# Altium footprint library PcbLib1.PcbLib: 46 footprints (part 1 of 3)
Each footprint in its own frame and in the unit in brackets; x right, y up, seen from the top. Pads: shape width x height; smd on the part's side, far side on the other; paste and mask are expansions set on the pad; w line width, h text height; cw(c..) or ccw(c..) is an arc to the next point about the centre after c.
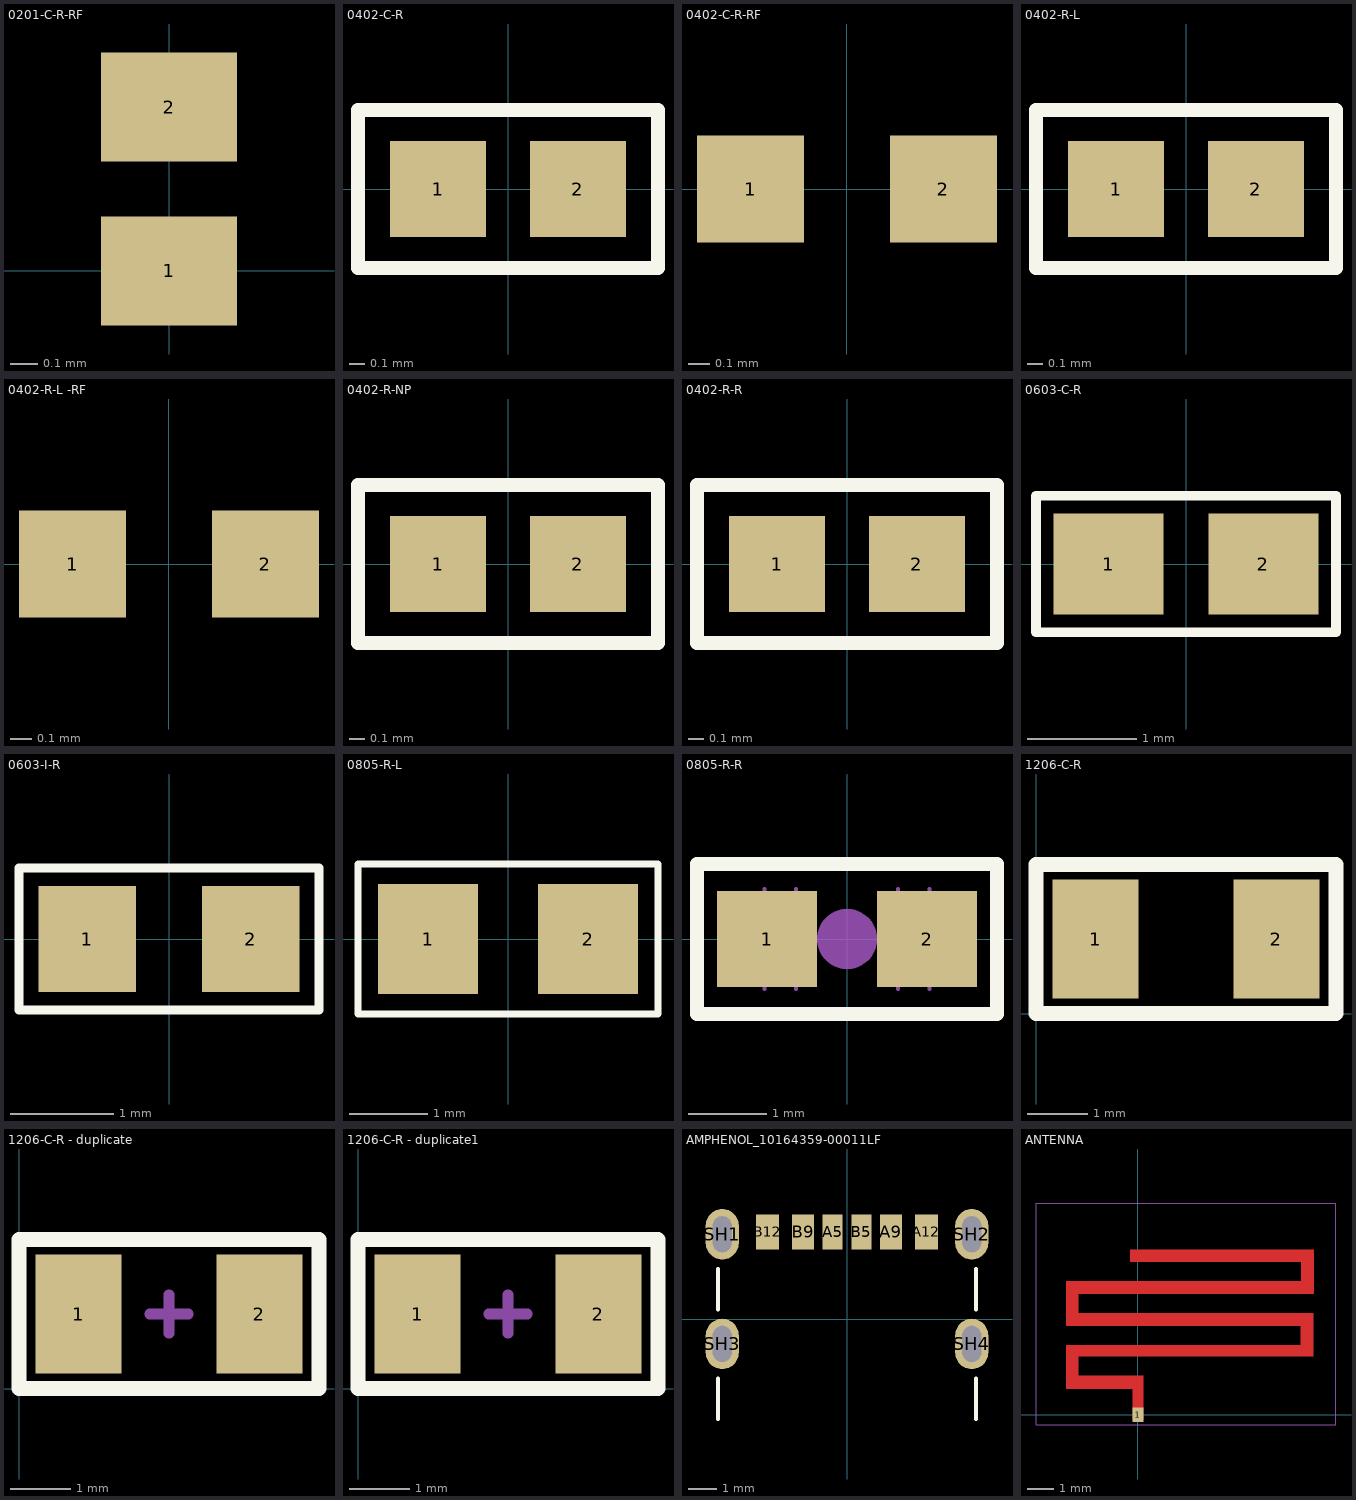
[diagram p0: the footprints below, top view; thin cyan lines are the x and y axes]

## 0201-C-R-RF [mm]
pads (2):
  rect 0.5x0.4 smd: 1(0,0) 2(0,0.6)
3D body "Capacitors_0201_H0P3.STEP": height 0.3, standoff 0, extent -0.15,0 0.15,0.6

## 0402-C-R [mm]
height 1.52
pads (2):
  rect 0.62x0.62 smd: 1(-0.45,0) 2(0.45,0)
Top Overlay:
  lines w0.089: -0.965,-0.508 0.965,-0.508 0.965,0.508 -0.965,0.508 -0.965,-0.508
3D body "C0402C104K3RACTU.step": height 0.55, standoff 0, extent -0.518,-0.271 0.532,0.279

## 0402-C-R-RF [mm]
height 1.52
pads (2):
  rect 0.5x0.5 smd: 1(-0.45,0) 2(0.45,0)
3D body "C0402C104K3RACTU.step": height 0.55, standoff 0, extent -0.518,-0.271 0.532,0.279

## 0402-R-L [mm]
height 1.52
pads (2):
  rect 0.62x0.62 smd: 1(-0.45,0) 2(0.45,0)
Top Overlay:
  lines w0.089: -0.965,-0.508 0.965,-0.508 0.965,0.508 -0.965,0.508 -0.965,-0.508
3D body "LQG15HN22NJ02D.step": height 0.55, standoff 0, extent -0.5,-0.25 0.5,0.25

## 0402-R-L -RF [mm]
height 1.52
pads (2):
  rect 0.5x0.5 smd: 1(-0.45,0) 2(0.45,0)
3D body "LQG15HN22NJ02D.step": height 0.55, standoff 0, extent -0.5,-0.25 0.5,0.25

## 0402-R-NP [mm]
height 1.52
pads (2):
  rect 0.62x0.62 smd: 1(-0.45,0) 2(0.45,0)
Top Overlay:
  lines w0.089: -0.965,-0.508 -0.965,0.508 0.965,0.508 0.965,-0.508 -0.965,-0.508

## 0402-R-R [mm]
height 1.52
pads (2):
  rect 0.62x0.62 smd: 1(-0.45,0) 2(0.45,0)
Top Overlay:
  lines w0.089: -0.965,-0.508 0.965,-0.508 0.965,0.508 -0.965,0.508 -0.965,-0.508
3D body "User Library-User Library-RES0402-2.STEP": height 0.35, standoff 0, extent -0.5,-0.25 0.5,0.25

## 0603-C-R [mm]
pads (2):
  rect 1.01x0.93 smd: 1(-0.709,0) 2(0.709,0)
Top Overlay:
  lines w0.089: -1.375,-0.625 -1.375,0.625 1.375,0.625 1.375,-0.625 -1.375,-0.625
3D body "step_temp.STEP": height 1, standoff 0, extent -0.8,-0.4 0.8,0.4

## 0603-I-R [mm]
pads (2):
  rect 0.94x1.02 smd: 1(-0.79,0) 2(0.79,0)
Top Overlay:
  lines w0.089: -1.448,-0.686 -1.448,0.686 1.448,0.686 1.448,-0.686 -1.448,-0.686
3D body "DFE18SAN1R0ME0L.step": height 0.8, standoff 0, extent -0.847,-0.413 0.753,0.387

## 0805-R-L [mil]
height 59.84
pads (2):
  rect 50x55 smd: 1(-40,0) 2(40,0)
Top Overlay:
  lines w3.5: -75,-37.5 75,-37.5 75,37.5 -75,37.5 -75,-37.5
3D body "STEP-WE-PMI-0805_STD-rev1.stp": height 49.21, standoff 0, extent -40,-24.61 38.74,24.61

## 0805-R-R [mil]
height 59.84
pads (2):
  rect 50x48 smd: 1(-40,0) 2(40,0)
Top Overlay:
  lines w7: -75,-37.5 75,-37.5 75,37.5 -75,37.5 -75,-37.5
Mechanical 9:
  circle w20: c0,0 r5
Mechanical 11:
  lines w2: -41.34,-25 -41.34,25 ; -25.59,-25 -25.59,25 ; 25.59,-25 25.59,25 ; 41.34,-25 41.34,25
3D body "SW3dPS-0805 SMD Resistor.STEP": height 30.79, standoff 0, extent -39.37,-24 39.37,25.21

## 1206-C-R [mm]
height 1.52
pads (2):
  rect 1.42x1.96 smd: 1(0.985,1.23) 2(3.965,1.23)
Top Overlay:
  lines w0.254: 0,0 4.95,0 4.95,2.46 0,2.46 0,0
3D body "C1206X335K8RACAUTO.step": height 1.2, standoff 0, extent 0.614,0.254 4.314,2.204

## 1206-C-R - duplicate [mm]
height 1.52
pads (2):
  rect 1.42x1.96 smd: 1(0.985,1.23) 2(3.965,1.23)
Top Overlay:
  lines w0.254: 0,0 4.95,0 4.95,2.46 0,2.46 0,0
Mechanical 16:
  lines w0.178: 2.157,1.23 2.792,1.23 ; 2.475,0.913 2.475,1.548
3D body "C1206X335K8RACAUTO.step": height 1.2, standoff 0, extent 0.614,0.254 4.314,2.204

## 1206-C-R - duplicate1 [mm]
height 1.52
pads (2):
  rect 1.42x1.96 smd: 1(0.985,1.23) 2(3.965,1.23)
Top Overlay:
  lines w0.254: 0,0 4.95,0 4.95,2.46 0,2.46 0,0
Mechanical 16:
  lines w0.178: 2.157,1.23 2.792,1.23 ; 2.475,0.913 2.475,1.548
3D body "C1206X335K8RACAUTO.step": height 1.2, standoff 0, extent 0.614,0.254 4.314,2.204

## AMPHENOL_10164359-00011LF [mm]
height 3.26
pads (10):
  rect 0.7x1.2 smd: A5(-0.5,3.03) B5(0.5,3.03)
  rect 0.76x1.2 smd: A9(1.52,3.03) B9(-1.52,3.03)
  rect 0.8x1.2 smd: A12(2.75,3.03) B12(-2.75,3.03)
  oval 1.15x1.75 hole 0.65 slot 1.25 at 90 deg: SH1(-4.32,2.95) SH2(4.32,2.95) SH3(-4.32,-0.85) SH4(4.32,-0.85)
Top Overlay:
  lines w0.127: -4.47,-3.45 -4.47,-2.045 ; -4.47,0.345 -4.47,1.755 ; 4.47,-3.45 4.47,-2.045 ; 4.47,0.345 4.47,1.755
3D body "10164359-00011LF.step": height 3.28, standoff -0.88, extent -4.495,-3.45 4.445,3.45

## ANTENNA [mm]
pads (1):
  rect 0.4x0.56 smd paste-0.2 mask+0.05: 1(0,0)
Top Layer:
  region: 6.676,4.585 -2.274,4.585 -2.274,3.86 6.651,3.86 6.651,2.21 -2.274,2.21 -2.274,1.485 0.201,1.485 0.201,-0.14 0.201,-0.165 -0.199,-0.165 -0.199,0.985 -2.724,0.985 -2.724,2.61 -2.724,2.635 6.176,2.635 6.176,3.01 6.176,3.385 -2.724,3.385 -2.724,5.01 -2.724,5.06 6.201,5.06 6.201,5.81 -0.299,5.81 -0.299,6.26 6.676,6.26
Top Solder:
  rectangle: -3.871,-0.386 7.516,8.031
Mechanical 16:
  lines w0.01: -3.865,-0.38 -3.865,8.025 7.51,8.025 7.51,-0.38 -3.865,-0.38